# Altium footprint library LibreriaComp.PcbLib: 43 footprints (part 2 of 3)
Each footprint in its own frame and in the unit in brackets; x right, y up, seen from the top. Pads: shape width x height; smd on the part's side, far side on the other; paste and mask are expansions set on the pad; w line width, h text height; cw(c..) or ccw(c..) is an arc to the next point about the centre after c.
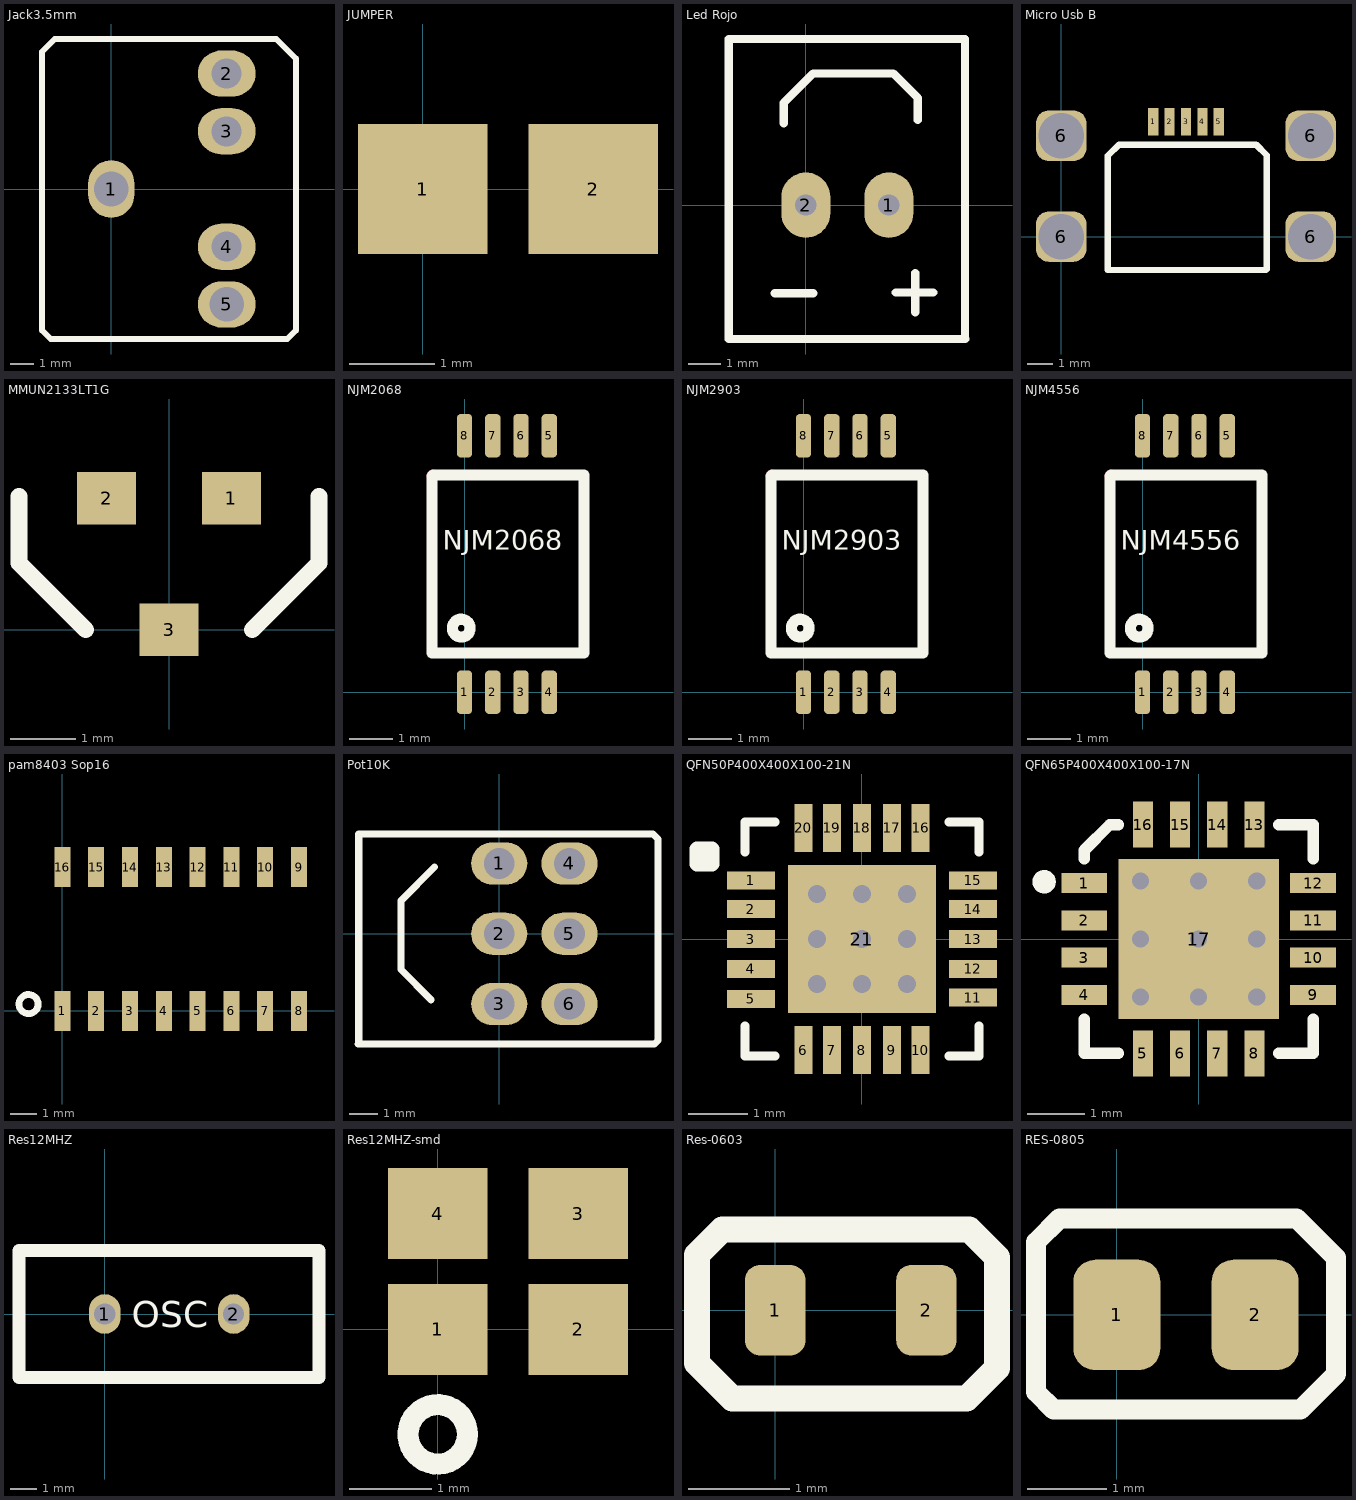
[diagram p1: the footprints below, top view; thin cyan lines are the x and y axes]

## Jack3.5mm [mm] "3Pines"
pads (5):
  oval 2x2.5 hole 1.5: 1(0,0)
  oval 2.5x2 hole 1.3: 2(5,5) 3(5,2.5) 4(5,-2.5)
  oval 2.5x2 hole 1.5: 5(5,-5)
Top Overlay:
  lines w0.254: -3,-6.125 -2.625,-6.5 7.625,-6.5 8,-6.125 8,5.175 8,5.65 7.15,6.5 -2.45,6.5 -3,5.95 -3,5.475 -3,-5.825 -3,-6.125

## JUMPER [mil]
pads (2):
  rect 60x60 smd: 1(0,0) 2(78.74,0)

## Led Rojo [mm] "condensador de pelicula"
pads (2):
  oval 1.5x2 hole 0.65: 1(2.54,0) 2(0,0)
Top Overlay:
  lines w0.254: -0.95,-2.7 0.225,-2.7 ; -0.675,2.5 -0.675,3.125 0.225,4.025 2.675,4.025 3.425,3.275 3.425,2.6 ; 2.75,-2.675 3.9,-2.675 ; 3.35,-3.275 3.35,-2.075 ; -2.355,-4.095 -2.355,5.08 4.87,5.08 4.87,-4.09 4.875,-4.095 -2.355,-4.095

## Micro Usb B [mm]
pads (9):
  rect 0.4x1.1 smd: 1(3.65,4.55) 2(4.3,4.55) 3(4.95,4.55) 4(5.6,4.55) 5(6.25,4.55)
  rrect50% 2x2 hole 1.8: 6(0,0) 6(0,4) 6(9.9,0) 6(9.9,4)
Top Overlay:
  lines w0.254: 8.125,-1.325 1.85,-1.325 1.85,3.2 2.3,3.65 7.725,3.65 8.15,3.225 8.15,-1.3

## MMUN2133LT1G [mm]
pads (3):
  rect 0.9x0.8 smd: 1(0.95,2) 2(-0.95,2) 3(0,0)
Top Overlay:
  lines w0.254: -2.286,2.032 -2.286,1.016 -1.27,0 ; 1.27,0 2.286,1.016 2.286,2.032

## NJM2068 [mm]
pads (8):
  rrect50% 0.35x1 smd: 1(0,0) 2(0.65,0) 3(1.3,0) 4(1.95,0) 5(1.95,5.9) 6(1.3,5.9) 7(0.65,5.9) 8(0,5.9)
Top Layer:
  lines w0.254: -0.75,4.975 -0.725,5
Top Overlay:
  circle w0.254: c-0.075,1.475 r0.206
  lines w0.254: -0.75,4.975 -0.75,0.9 2.75,0.9 2.75,5 -0.3,5 -0.725,5
  text "NJM2068" at -0.5,3.275 h0.45

## NJM2903 [mm]
pads (8):
  rrect50% 0.35x1 smd: 1(0,0) 2(0.65,0) 3(1.3,0) 4(1.95,0) 5(1.95,5.9) 6(1.3,5.9) 7(0.65,5.9) 8(0,5.9)
Top Layer:
  lines w0.254: -0.75,4.975 -0.725,5
Top Overlay:
  circle w0.254: c-0.075,1.475 r0.206
  lines w0.254: -0.75,4.975 -0.75,0.9 2.75,0.9 2.75,5 -0.3,5 -0.725,5
  text "NJM2903" at -0.5,3.275 h0.45

## NJM4556 [mm]
pads (8):
  rrect50% 0.35x1 smd: 1(0,0) 2(0.65,0) 3(1.3,0) 4(1.95,0) 5(1.95,5.9) 6(1.3,5.9) 7(0.65,5.9) 8(0,5.9)
Top Layer:
  lines w0.254: -0.75,4.975 -0.725,5
Top Overlay:
  circle w0.254: c-0.075,1.475 r0.206
  lines w0.254: -0.75,4.975 -0.75,0.9 2.75,0.9 2.75,5 -0.3,5 -0.725,5
  text "NJM4556" at -0.5,3.275 h0.45

## pam8403 Sop16 [mm]
pads (16):
  rect 0.6x1.5 smd: 1(0,0) 2(1.27,0) 3(2.54,0) 4(3.81,0) 5(5.08,0) 6(6.35,0) 7(7.62,0) 8(8.89,0) 9(8.89,5.4) 10(7.62,5.4) 11(6.35,5.4) 12(5.08,5.4) 13(3.81,5.4) 14(2.54,5.4) 15(1.27,5.4) 16(0,5.4)
Top Overlay:
  circle w0.254: c-1.27,0.254 r0.359

## Pot10K [mm] "3Pines"
pads (6):
  oval 2x1.5 hole 1.1: 1(0,2.5) 2(0,0) 3(0,-2.5) 4(2.5,2.5) 5(2.5,0) 6(2.5,-2.5)
Top Overlay:
  lines w0.254: -5.025,-3.925 5.525,-3.925 5.65,-3.8 5.65,-3.55 5.65,3.35 5.65,3.375 5.475,3.55 -5,3.55 -5,-3.325 -5,-3.9 ; -2.425,-2.35 -3.5,-1.275 -3.5,1.175 -2.3,2.375

## QFN50P400X400X100-21N [mm]
pads (21):
  rect 0.813x0.305 smd: 1(-1.88,0.991) 2(-1.88,0.508) 3(-1.88,0) 4(-1.88,-0.508) 5(-1.88,-1.016) 11(1.88,-0.991) 12(1.88,-0.508) 13(1.88,0) 14(1.88,0.508) 15(1.88,0.991)
  rect 0.305x0.813 smd: 6(-0.991,-1.88) 7(-0.508,-1.88) 8(0,-1.88) 9(0.508,-1.88) 10(0.99,-1.88) 16(0.991,1.88) 17(0.508,1.88) 18(0,1.88) 19(-0.508,1.88) 20(-0.991,1.88)
  rect 2.5x2.5 smd: 21(0,0)
via -0.762,-0.762 diameter 0.5 hole 0.3
via 0,-0.762 diameter 0.5 hole 0.3
via 0.762,-0.762 diameter 0.5 hole 0.3
via 0.762,0.762 diameter 0.5 hole 0.3
via 0,0.762 diameter 0.5 hole 0.3
via -0.762,0.762 diameter 0.5 hole 0.3
via 0.762,0 diameter 0.5 hole 0.3
via -0.762,0 diameter 0.5 hole 0.3
via 0,0 diameter 0.5 hole 0.3
Top Overlay:
  lines w0.152: -1.981,-1.473 -1.981,-1.981 -1.473,-1.981 ; -1.981,1.473 -1.981,1.981 -1.473,1.981 ; 1.473,-1.981 1.981,-1.981 1.981,-1.473 ; 1.473,1.981 1.981,1.981 1.981,1.473
  lines w0.254: -2.794,1.27 -2.794,1.524 -2.54,1.524 -2.54,1.27 -2.794,1.27

## QFN65P400X400X100-17N [mm]
pads (17):
  rect 0.8x0.35 smd: 1(-2,0.975) 2(-2,0.325) 3(-2,-0.325) 4(-2,-0.975) 9(2,-0.975) 10(2,-0.325) 11(2,0.325) 12(2,0.975)
  rect 0.35x0.8 smd: 5(-0.975,-2) 6(-0.325,-2) 7(0.325,-2) 8(0.975,-2) 13(0.975,2) 14(0.325,2) 15(-0.325,2) 16(-0.975,2)
  rect 2.8x2.8 smd: 17(0,0)
via 1.016,1.016 diameter 0.5 hole 0.3
via -1.016,1.016 diameter 0.5 hole 0.3
via 1.016,0 diameter 0.5 hole 0.3
via -1.016,0 diameter 0.5 hole 0.3
via 1.016,-1.016 diameter 0.5 hole 0.3
via -1.016,-1.016 diameter 0.5 hole 0.3
via 0,-1.016 diameter 0.5 hole 0.3
via 0,0 diameter 0.5 hole 0.3
via 0,1.016 diameter 0.5 hole 0.3
Top Overlay:
  circle w0.127: c-2.7,1 r0.141
  circle w0.127: c-2.7,1 r0.071
  circle w0.127: c-2.7,1 r0.05
  lines w0.2: -2,-1.4 -2,-2 -1.4,-2 ; -2,1.4 -2,1.55 -1.55,2 -1.4,2 ; 1.4,-2 2,-2 2,-1.4 ; 1.4,2 2,2 2,1.4

## Res12MHZ [mm]
pads (2):
  oval 1.2x1.5 hole 0.8: 1(0,0) 2(4.88,0)
Top Overlay:
  lines w0.5: -3.25,-2.4 -3.25,2.4 8.115,2.4 8.115,-2.4 -3.25,-2.4
  text "OSC" at 1.016,-0.508 h1

## Res12MHZ-smd [mm]
pads (4):
  rect 1.2x1.1 smd: 1(0,0) 2(1.7,0) 3(1.7,1.4) 4(0,1.4)
Top Overlay:
  circle w0.254: c0,-1.27 r0.359

## Res-0603 [mm]
pads (2):
  rrect50% 0.6x0.9 smd: 1(0,0) 2(1.5,0)
Top Overlay:
  lines w0.254: -0.775,-0.525 -0.425,-0.875 1.9,-0.875 2.2,-0.575 2.2,0.525 1.925,0.8 -0.525,0.8 -0.775,0.55 -0.775,-0.525

## RES-0805 [mm]
pads (2):
  rrect50% 1.1x1.4 smd: 1(0,0) 2(1.75,0)
Top Overlay:
  lines w0.254: 2.275,1.225 2.775,0.725 2.775,-0.75 2.325,-1.2 -0.8,-1.2 -1.025,-0.975 -1.025,0.925 -0.725,1.225 2.275,1.225 ; 2.275,1.225 2.275,1.225